# Altium footprint library BGA_Sq_50P.PcbLib: 21 footprints (part 1 of 2)
Each footprint in its own frame and in the unit in brackets; x right, y up, seen from the top. Pads: shape width x height; smd on the part's side, far side on the other; paste and mask are expansions set on the pad; w line width, h text height; cw(c..) or ccw(c..) is an arc to the next point about the centre after c.
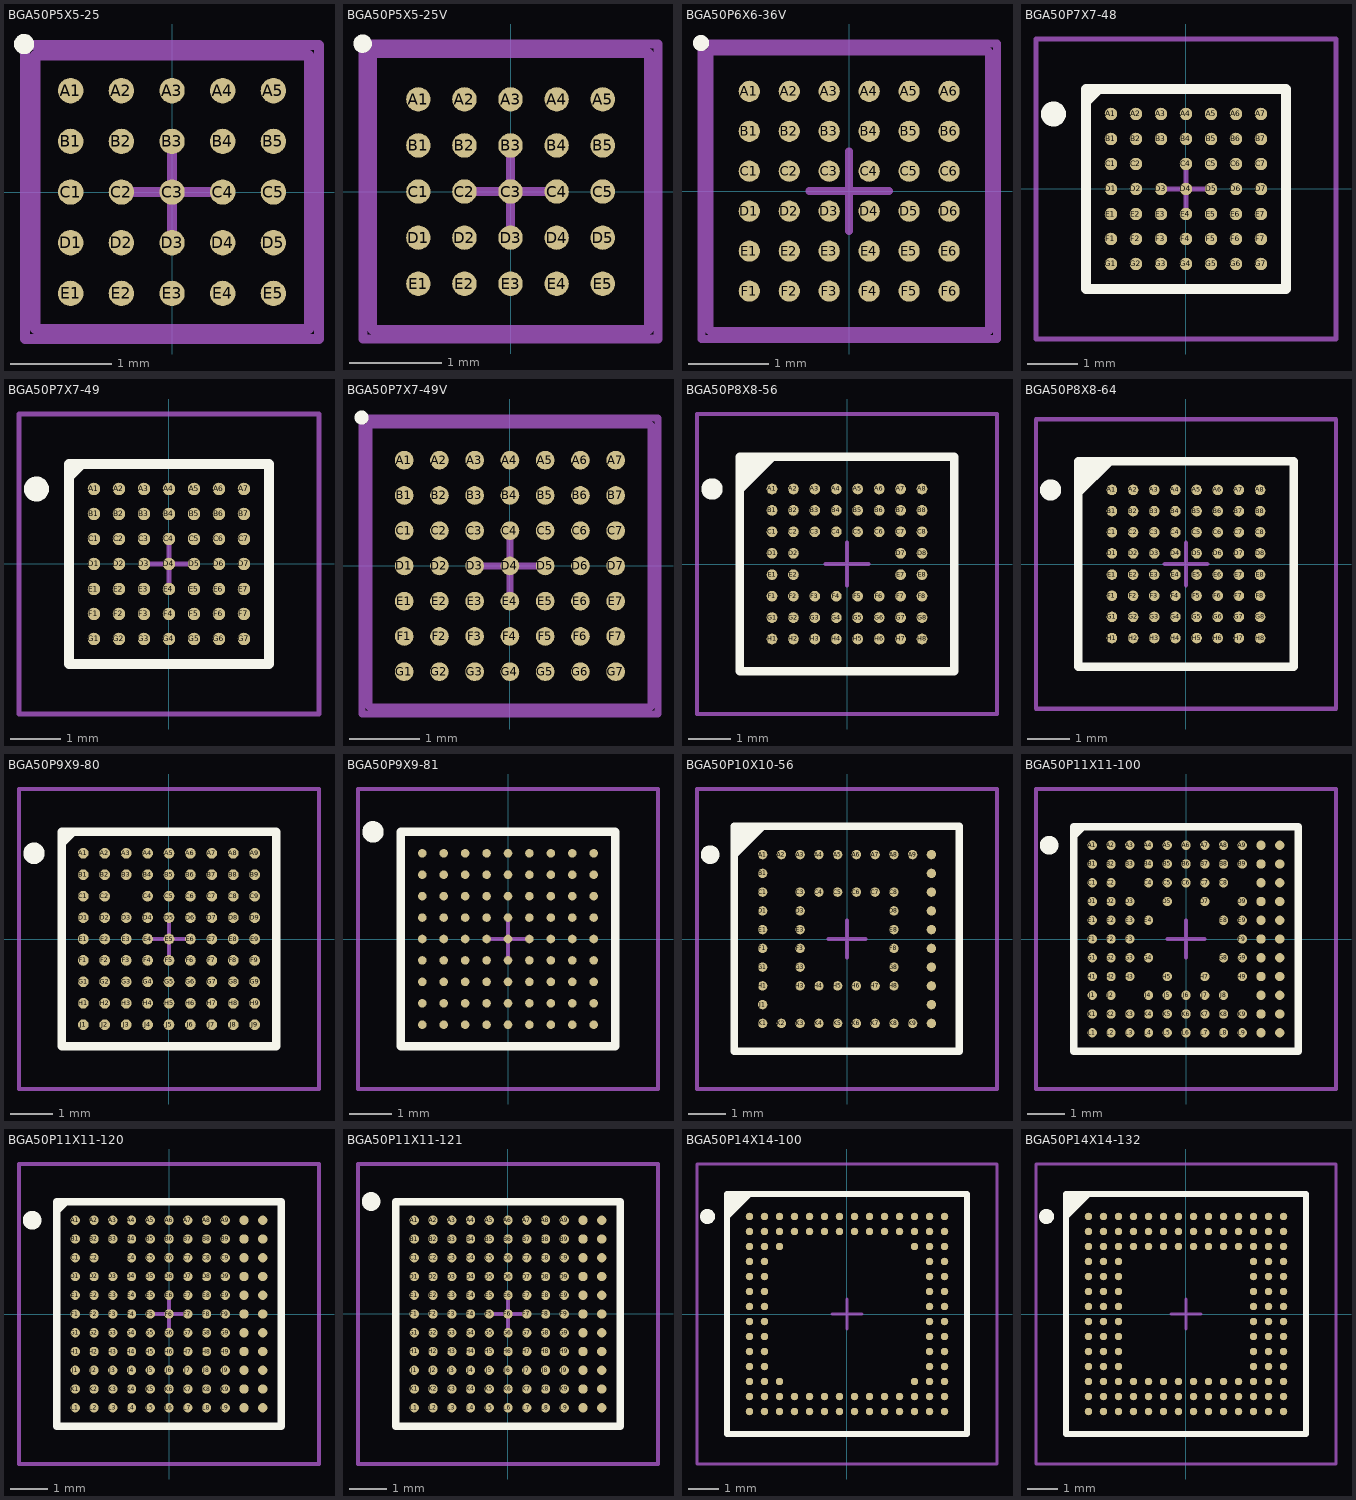
[diagram p0: the footprints below, top view; thin cyan lines are the x and y axes]

## BGA50P5X5-25 [mm] "BGA, 25-Leads, Body 2.69x2.69mm, Pitch 0.5mm"
height 0.6
pads (25):
  round 0.25 smd: A1(-1,1) A2(-0.5,1) A3(0,1) A4(0.5,1) A5(1,1) B1(-1,0.5) B2(-0.5,0.5) B3(0,0.5) B4(0.5,0.5) B5(1,0.5) C1(-1,0) C2(-0.5,0) C3(0,0) C4(0.5,0) C5(1,0) D1(-1,-0.5) D2(-0.5,-0.5) D3(0,-0.5) D4(0.5,-0.5) D5(1,-0.5) E1(-1,-1) E2(-0.5,-1) E3(0,-1) E4(0.5,-1) E5(1,-1)
Top Overlay:
  circle w0.1: c-1.46,1.46 r0.05
Mechanical 13:
  lines w0.1: -1.35,-1.35 1.35,-1.35 1.35,1.35 -1.35,1.35 -1.35,-1.35
Mechanical 15:
  lines w0.1: -0.5,0 0.5,0 ; 0,-0.5 0,0.5 ; -1.45,-1.45 1.45,-1.45 1.45,1.45 -1.45,1.45 -1.45,-1.45
3D body: height 0.6, standoff 0.22, extent -1.35,-1.35 1.35,1.35

## BGA50P5X5-25V [mm] "BGA, 25-Leads, Body 3x3mm, Pitch 0.5mm, NSC Recommended"
height 1.1
pads (25):
  round 0.265 smd paste-0.132 mask+0.05: A1(-1,1) A2(-0.5,1) A3(0,1) A4(0.5,1) A5(1,1) B1(-1,0.5) B2(-0.5,0.5) B3(0,0.5) B4(0.5,0.5) B5(1,0.5) C1(-1,0) C2(-0.5,0) C3(0,0) C4(0.5,0) C5(1,0) D1(-1,-0.5) D2(-0.5,-0.5) D3(0,-0.5) D4(0.5,-0.5) D5(1,-0.5) E1(-1,-1) E2(-0.5,-1) E3(0,-1) E4(0.5,-1) E5(1,-1)
Top Overlay:
  circle w0.1: c-1.605,1.605 r0.05
Top Paste:
  drawing of 225 lines, arcs and shapes, not listed
Mechanical 13:
  lines w0.1: -1.5,-1.5 -1.5,1.5 1.5,1.5 1.5,-1.5 -1.5,-1.5
Mechanical 15:
  lines w0.1: -0.5,0 0.5,0 ; 0,-0.5 0,0.5 ; -1.6,-1.6 -1.6,1.6 1.6,1.6 1.6,-1.6 -1.6,-1.6
3D body: height 1.1, standoff 0, extent -1.5,-1.5 1.5,1.5

## BGA50P6X6-36V [mm] "BGA, 36-Leads, Body 3.5x3.5mm, Pitch 0.5mm, NSC Recommended"
height 1.1
pads (36):
  round 0.265 smd paste-0.132 mask+0.05: A1(-1.25,1.25) A2(-0.75,1.25) A3(-0.25,1.25) A4(0.25,1.25) A5(0.75,1.25) A6(1.25,1.25) B1(-1.25,0.75) B2(-0.75,0.75) B3(-0.25,0.75) B4(0.25,0.75) B5(0.75,0.75) B6(1.25,0.75) C1(-1.25,0.25) C2(-0.75,0.25) C3(-0.25,0.25) C4(0.25,0.25) C5(0.75,0.25) C6(1.25,0.25) D1(-1.25,-0.25) D2(-0.75,-0.25) D3(-0.25,-0.25) D4(0.25,-0.25) D5(0.75,-0.25) D6(1.25,-0.25) E1(-1.25,-0.75) E2(-0.75,-0.75) E3(-0.25,-0.75) E4(0.25,-0.75) E5(0.75,-0.75) E6(1.25,-0.75) F1(-1.25,-1.25) F2(-0.75,-1.25) F3(-0.25,-1.25) F4(0.25,-1.25) F5(0.75,-1.25) F6(1.25,-1.25)
Top Overlay:
  circle w0.1: c-1.855,1.855 r0.05
Top Paste:
  drawing of 324 lines, arcs and shapes, not listed
Mechanical 13:
  lines w0.1: -1.75,-1.75 -1.75,1.75 1.75,1.75 1.75,-1.75 -1.75,-1.75
Mechanical 15:
  lines w0.1: -0.5,0 0.5,0 ; 0,-0.5 0,0.5 ; -1.85,-1.85 -1.85,1.85 1.85,1.85 1.85,-1.85 -1.85,-1.85
3D body: height 1.1, standoff 0, extent -1.75,-1.75 1.75,1.75

## BGA50P7X7-48 [mm] "BGA, 48-Leads, Body 4x4mm, Pitch 0.5mm"
height 1
pads (48):
  round 0.25 smd: A1(-1.5,1.5) A2(-1,1.5) A3(-0.5,1.5) A4(0,1.5) A5(0.5,1.5) A6(1,1.5) A7(1.5,1.5) B1(-1.5,1) B2(-1,1) B3(-0.5,1) B4(0,1) B5(0.5,1) B6(1,1) B7(1.5,1) C1(-1.5,0.5) C2(-1,0.5) C4(0,0.5) C5(0.5,0.5) C6(1,0.5) C7(1.5,0.5) D1(-1.5,0) D2(-1,0) D3(-0.5,0) D4(0,0) D5(0.5,0) D6(1,0) D7(1.5,0) E1(-1.5,-0.5) E2(-1,-0.5) E3(-0.5,-0.5) E4(0,-0.5) E5(0.5,-0.5) E6(1,-0.5) E7(1.5,-0.5) F1(-1.5,-1) F2(-1,-1) F3(-0.5,-1) F4(0,-1) F5(0.5,-1) F6(1,-1) F7(1.5,-1) G1(-1.5,-1.5) G2(-1,-1.5) G3(-0.5,-1.5) G4(0,-1.5) G5(0.5,-1.5) G6(1,-1.5) G7(1.5,-1.5)
Top Overlay:
  circle w0.25: c-2.65,1.5 r0.125
  region: -1.742,2 -2,1.742 -2,2
  lines w0.2: -2,1.742 -1.742,2 ; -2,-2 2,-2 2,2 -2,2 -2,-2
Mechanical 13:
  lines w0.1: -2,-2 2,-2 2,2 -2,2 -2,-2
Mechanical 15:
  lines w0.1: -0.5,0 0.5,0 ; 0,-0.5 0,0.5 ; -3,-3 3,-3 3,3 -3,3 -3,-3
3D body: height 1, standoff 0, extent -2,-2 2,2

## BGA50P7X7-49 [mm] "BGA, 49-Leads, Body 4x4mm, Pitch 0.5mm"
height 1.1
pads (49):
  round 0.25 smd: A1(-1.5,1.5) A2(-1,1.5) A3(-0.5,1.5) A4(0,1.5) A5(0.5,1.5) A6(1,1.5) A7(1.5,1.5) B1(-1.5,1) B2(-1,1) B3(-0.5,1) B4(0,1) B5(0.5,1) B6(1,1) B7(1.5,1) C1(-1.5,0.5) C2(-1,0.5) C3(-0.5,0.5) C4(0,0.5) C5(0.5,0.5) C6(1,0.5) C7(1.5,0.5) D1(-1.5,0) D2(-1,0) D3(-0.5,0) D4(0,0) D5(0.5,0) D6(1,0) D7(1.5,0) E1(-1.5,-0.5) E2(-1,-0.5) E3(-0.5,-0.5) E4(0,-0.5) E5(0.5,-0.5) E6(1,-0.5) E7(1.5,-0.5) F1(-1.5,-1) F2(-1,-1) F3(-0.5,-1) F4(0,-1) F5(0.5,-1) F6(1,-1) F7(1.5,-1) G1(-1.5,-1.5) G2(-1,-1.5) G3(-0.5,-1.5) G4(0,-1.5) G5(0.5,-1.5) G6(1,-1.5) G7(1.5,-1.5)
Top Overlay:
  circle w0.25: c-2.65,1.5 r0.125
  region: -1.742,2 -2,1.742 -2,2
  lines w0.2: -2,1.742 -1.742,2 ; -2,-2 2,-2 2,2 -2,2 -2,-2
Mechanical 13:
  lines w0.1: -2,-2 2,-2 2,2 -2,2 -2,-2
Mechanical 15:
  lines w0.1: -0.5,0 0.5,0 ; 0,-0.5 0,0.5 ; -3,-3 3,-3 3,3 -3,3 -3,-3
3D body: height 1.1, standoff 0.18, extent -1.999,-1.999 1.999,1.999

## BGA50P7X7-49V [mm] "BGA, 49-Leads, Body 4x4mm, Pitch 0.5mm, NSC Recommended"
height 1.1
pads (49):
  round 0.265 smd paste-0.132 mask+0.05: A1(-1.5,1.5) A2(-1,1.5) A3(-0.5,1.5) A4(0,1.5) A5(0.5,1.5) A6(1,1.5) A7(1.5,1.5) B1(-1.5,1) B2(-1,1) B3(-0.5,1) B4(0,1) B5(0.5,1) B6(1,1) B7(1.5,1) C1(-1.5,0.5) C2(-1,0.5) C3(-0.5,0.5) C4(0,0.5) C5(0.5,0.5) C6(1,0.5) C7(1.5,0.5) D1(-1.5,0) D2(-1,0) D3(-0.5,0) D4(0,0) D5(0.5,0) D6(1,0) D7(1.5,0) E1(-1.5,-0.5) E2(-1,-0.5) E3(-0.5,-0.5) E4(0,-0.5) E5(0.5,-0.5) E6(1,-0.5) E7(1.5,-0.5) F1(-1.5,-1) F2(-1,-1) F3(-0.5,-1) F4(0,-1) F5(0.5,-1) F6(1,-1) F7(1.5,-1) G1(-1.5,-1.5) G2(-1,-1.5) G3(-0.5,-1.5) G4(0,-1.5) G5(0.5,-1.5) G6(1,-1.5) G7(1.5,-1.5)
Top Overlay:
  circle w0.1: c-2.105,2.105 r0.05
Top Paste:
  drawing of 441 lines, arcs and shapes, not listed
Mechanical 13:
  lines w0.1: -2,-2 -2,2 2,2 2,-2 -2,-2
Mechanical 15:
  lines w0.1: -0.5,0 0.5,0 ; 0,-0.5 0,0.5 ; -2.1,-2.1 -2.1,2.1 2.1,2.1 2.1,-2.1 -2.1,-2.1
3D body: height 1.1, standoff 0, extent -2,-2 2,2

## BGA50P8X8-56 [mm] "BGA, 56-Leads, Body 5x5mm, Pitch 0.5mm"
height 1
pads (56):
  round 0.25 smd: A1(-1.75,1.75) A2(-1.25,1.75) A3(-0.75,1.75) A4(-0.25,1.75) A5(0.25,1.75) A6(0.75,1.75) A7(1.25,1.75) A8(1.75,1.75) B1(-1.75,1.25) B2(-1.25,1.25) B3(-0.75,1.25) B4(-0.25,1.25) B5(0.25,1.25) B6(0.75,1.25) B7(1.25,1.25) B8(1.75,1.25) C1(-1.75,0.75) C2(-1.25,0.75) C3(-0.75,0.75) C4(-0.25,0.75) C5(0.25,0.75) C6(0.75,0.75) C7(1.25,0.75) C8(1.75,0.75) D1(-1.75,0.25) D2(-1.25,0.25) D7(1.25,0.25) D8(1.75,0.25) E1(-1.75,-0.25) E2(-1.25,-0.25) E7(1.25,-0.25) E8(1.75,-0.25) F1(-1.75,-0.75) F2(-1.25,-0.75) F3(-0.75,-0.75) F4(-0.25,-0.75) F5(0.25,-0.75) F6(0.75,-0.75) F7(1.25,-0.75) F8(1.75,-0.75) G1(-1.75,-1.25) G2(-1.25,-1.25) G3(-0.75,-1.25) G4(-0.25,-1.25) G5(0.25,-1.25) G6(0.75,-1.25) G7(1.25,-1.25) G8(1.75,-1.25) H1(-1.75,-1.75) H2(-1.25,-1.75) H3(-0.75,-1.75) H4(-0.25,-1.75) H5(0.25,-1.75) H6(0.75,-1.75) H7(1.25,-1.75) H8(1.75,-1.75)
Top Overlay:
  circle w0.25: c-3.15,1.75 r0.125
  region: -1.742,2.5 -2.5,1.742 -2.5,2.5
  lines w0.2: -2.5,1.742 -1.742,2.5 ; -2.5,-2.5 2.5,-2.5 2.5,2.5 -2.5,2.5 -2.5,-2.5
Mechanical 13:
  lines w0.1: -2.5,-2.5 2.5,-2.5 2.5,2.5 -2.5,2.5 -2.5,-2.5
Mechanical 15:
  lines w0.1: -0.5,0 0.5,0 ; 0,-0.5 0,0.5 ; -3.5,-3.5 3.5,-3.5 3.5,3.5 -3.5,3.5 -3.5,-3.5
3D body: height 1, standoff 0, extent -2.5,-2.5 2.5,2.5

## BGA50P8X8-64 [mm] "BGA, 64-Leads, Body 4.8x5.1mm, Pitch 0.5mm"
height 0.9
pads (64):
  round 0.25 smd: A1(-1.75,1.75) A2(-1.25,1.75) A3(-0.75,1.75) A4(-0.25,1.75) A5(0.25,1.75) A6(0.75,1.75) A7(1.25,1.75) A8(1.75,1.75) B1(-1.75,1.25) B2(-1.25,1.25) B3(-0.75,1.25) B4(-0.25,1.25) B5(0.25,1.25) B6(0.75,1.25) B7(1.25,1.25) B8(1.75,1.25) C1(-1.75,0.75) C2(-1.25,0.75) C3(-0.75,0.75) C4(-0.25,0.75) C5(0.25,0.75) C6(0.75,0.75) C7(1.25,0.75) C8(1.75,0.75) D1(-1.75,0.25) D2(-1.25,0.25) D3(-0.75,0.25) D4(-0.25,0.25) D5(0.25,0.25) D6(0.75,0.25) D7(1.25,0.25) D8(1.75,0.25) E1(-1.75,-0.25) E2(-1.25,-0.25) E3(-0.75,-0.25) E4(-0.25,-0.25) E5(0.25,-0.25) E6(0.75,-0.25) E7(1.25,-0.25) E8(1.75,-0.25) F1(-1.75,-0.75) F2(-1.25,-0.75) F3(-0.75,-0.75) F4(-0.25,-0.75) F5(0.25,-0.75) F6(0.75,-0.75) F7(1.25,-0.75) F8(1.75,-0.75) G1(-1.75,-1.25) G2(-1.25,-1.25) G3(-0.75,-1.25) G4(-0.25,-1.25) G5(0.25,-1.25) G6(0.75,-1.25) G7(1.25,-1.25) G8(1.75,-1.25) H1(-1.75,-1.75) H2(-1.25,-1.75) H3(-0.75,-1.75) H4(-0.25,-1.75) H5(0.25,-1.75) H6(0.75,-1.75) H7(1.25,-1.75) H8(1.75,-1.75)
Top Overlay:
  circle w0.25: c-3.2,1.75 r0.125
  region: -1.801,2.425 -2.55,1.676 -2.55,2.425
  lines w0.2: -2.55,1.676 -1.801,2.425 ; -2.55,-2.425 -2.55,2.425 2.55,2.425 2.55,-2.425 -2.55,-2.425
Mechanical 13:
  lines w0.1: -2.55,-2.425 -2.55,2.425 2.55,2.425 2.55,-2.425 -2.55,-2.425
Mechanical 15:
  lines w0.1: -0.5,0 0.5,0 ; 0,-0.5 0,0.5 ; -3.545,-3.42 -3.545,3.42 3.545,3.42 3.545,-3.42 -3.545,-3.42
3D body: height 0.9, standoff 0.25, extent -2.55,-2.425 2.55,2.425

## BGA50P9X9-80 [mm] "BGA, 80-Leads, Body 5x5mm, Pitch 0.5mm"
height 1
pads (80):
  round 0.25 smd: A1(-2,2) A2(-1.5,2) A3(-1,2) A4(-0.5,2) A5(0,2) A6(0.5,2) A7(1,2) A8(1.5,2) A9(2,2) B1(-2,1.5) B2(-1.5,1.5) B3(-1,1.5) B4(-0.5,1.5) B5(0,1.5) B6(0.5,1.5) B7(1,1.5) B8(1.5,1.5) B9(2,1.5) C1(-2,1) C2(-1.5,1) C4(-0.5,1) C5(0,1) C6(0.5,1) C7(1,1) C8(1.5,1) C9(2,1) D1(-2,0.5) D2(-1.5,0.5) D3(-1,0.5) D4(-0.5,0.5) D5(0,0.5) D6(0.5,0.5) D7(1,0.5) D8(1.5,0.5) D9(2,0.5) E1(-2,0) E2(-1.5,0) E3(-1,0) E4(-0.5,0) E5(0,0) E6(0.5,0) E7(1,0) E8(1.5,0) E9(2,0) F1(-2,-0.5) F2(-1.5,-0.5) F3(-1,-0.5) F4(-0.5,-0.5) F5(0,-0.5) F6(0.5,-0.5) F7(1,-0.5) F8(1.5,-0.5) F9(2,-0.5) G1(-2,-1) G2(-1.5,-1) G3(-1,-1) G4(-0.5,-1) G5(0,-1) G6(0.5,-1) G7(1,-1) G8(1.5,-1) G9(2,-1) H1(-2,-1.5) H2(-1.5,-1.5) H3(-1,-1.5) H4(-0.5,-1.5) H5(0,-1.5) H6(0.5,-1.5) H7(1,-1.5) H8(1.5,-1.5) H9(2,-1.5) J1(-2,-2) J2(-1.5,-2) J3(-1,-2) J4(-0.5,-2) J5(0,-2) J6(0.5,-2) J7(1,-2) J8(1.5,-2) J9(2,-2)
Top Overlay:
  circle w0.25: c-3.15,2 r0.125
  region: -2.242,2.5 -2.5,2.242 -2.5,2.5
  lines w0.2: -2.5,2.242 -2.242,2.5 ; -2.5,-2.5 -2.5,2.5 2.5,2.5 2.5,-2.5 -2.5,-2.5
Mechanical 13:
  lines w0.1: -2.5,-2.5 -2.5,2.5 2.5,2.5 2.5,-2.5 -2.5,-2.5
Mechanical 15:
  lines w0.1: -0.5,0 0.5,0 ; 0,-0.5 0,0.5 ; -3.5,-3.5 -3.5,3.5 3.5,3.5 3.5,-3.5 -3.5,-3.5
3D body: height 1, standoff 0, extent -2.5,-2.5 2.5,2.5

## BGA50P9X9-81 [mm] "BGA, 81-Leads, Body 5x5mm, Pitch 0.5mm"
height 0.8
pads (81):
  round 0.2 smd: A1(-2,2) A2(-1.5,2) A3(-1,2) A4(-0.5,2) A5(0,2) A6(0.5,2) A7(1,2) A8(1.5,2) A9(2,2) B1(-2,1.5) B2(-1.5,1.5) B3(-1,1.5) B4(-0.5,1.5) B5(0,1.5) B6(0.5,1.5) B7(1,1.5) B8(1.5,1.5) B9(2,1.5) C1(-2,1) C2(-1.5,1) C3(-1,1) C4(-0.5,1) C5(0,1) C6(0.5,1) C7(1,1) C8(1.5,1) C9(2,1) D1(-2,0.5) D2(-1.5,0.5) D3(-1,0.5) D4(-0.5,0.5) D5(0,0.5) D6(0.5,0.5) D7(1,0.5) D8(1.5,0.5) D9(2,0.5) E1(-2,0) E2(-1.5,0) E3(-1,0) E4(-0.5,0) E5(0,0) E6(0.5,0) E7(1,0) E8(1.5,0) E9(2,0) F1(-2,-0.5) F2(-1.5,-0.5) F3(-1,-0.5) F4(-0.5,-0.5) F5(0,-0.5) F6(0.5,-0.5) F7(1,-0.5) F8(1.5,-0.5) F9(2,-0.5) G1(-2,-1) G2(-1.5,-1) G3(-1,-1) G4(-0.5,-1) G5(0,-1) G6(0.5,-1) G7(1,-1) G8(1.5,-1) G9(2,-1) H1(-2,-1.5) H2(-1.5,-1.5) H3(-1,-1.5) H4(-0.5,-1.5) H5(0,-1.5) H6(0.5,-1.5) H7(1,-1.5) H8(1.5,-1.5) H9(2,-1.5) J1(-2,-2) J2(-1.5,-2) J3(-1,-2) J4(-0.5,-2) J5(0,-2) J6(0.5,-2) J7(1,-2) J8(1.5,-2) J9(2,-2)
Top Overlay:
  circle w0.25: c-3.15,2.5 r0.125
  lines w0.2: -2.5,-2.5 2.5,-2.5 2.5,2.5 -2.5,2.5 -2.5,-2.5
Mechanical 13:
  lines w0.1: -2.5,-2.5 2.5,-2.5 2.5,2.5 -2.5,2.5 -2.5,-2.5
Mechanical 15:
  lines w0.1: -0.5,0 0.5,0 ; 0,-0.5 0,0.5 ; -3.5,-3.5 3.5,-3.5 3.5,3.5 -3.5,3.5 -3.5,-3.5
3D body: height 0.8, standoff 0.05, extent -2.5,-2.5 2.5,2.5

## BGA50P10X10-56 [mm] "BGA, 56-Leads, Body 6x6mm, Pitch 0.5mm"
height 1.35
pads (56):
  round 0.25 smd: A1(-2.25,2.25) A2(-1.75,2.25) A3(-1.25,2.25) A4(-0.75,2.25) A5(-0.25,2.25) A6(0.25,2.25) A7(0.75,2.25) A8(1.25,2.25) A9(1.75,2.25) A10(2.25,2.25) B1(-2.25,1.75) B10(2.25,1.75) C1(-2.25,1.25) C3(-1.25,1.25) C4(-0.75,1.25) C5(-0.25,1.25) C6(0.25,1.25) C7(0.75,1.25) C8(1.25,1.25) C10(2.25,1.25) D1(-2.25,0.75) D3(-1.25,0.75) D8(1.25,0.75) D10(2.25,0.75) E1(-2.25,0.25) E3(-1.25,0.25) E8(1.25,0.25) E10(2.25,0.25) F1(-2.25,-0.25) F3(-1.25,-0.25) F8(1.25,-0.25) F10(2.25,-0.25) G1(-2.25,-0.75) G3(-1.25,-0.75) G8(1.25,-0.75) G10(2.25,-0.75) H1(-2.25,-1.25) H3(-1.25,-1.25) H4(-0.75,-1.25) H5(-0.25,-1.25) H6(0.25,-1.25) H7(0.75,-1.25) H8(1.25,-1.25) H10(2.25,-1.25) J1(-2.25,-1.75) J10(2.25,-1.75) K1(-2.25,-2.25) K2(-1.75,-2.25) K3(-1.25,-2.25) K4(-0.75,-2.25) K5(-0.25,-2.25) K6(0.25,-2.25) K7(0.75,-2.25) K8(1.25,-2.25) K9(1.75,-2.25) K10(2.25,-2.25)
Top Overlay:
  circle w0.25: c-3.65,2.25 r0.125
  region: -2.242,3 -3,2.242 -3,3
  lines w0.2: -3,2.242 -2.242,3 ; -3,-3 3,-3 3,3 -3,3 -3,-3
Mechanical 13:
  lines w0.1: -3,-3 3,-3 3,3 -3,3 -3,-3
Mechanical 15:
  lines w0.1: -0.5,0 0.5,0 ; 0,-0.5 0,0.5 ; -4,-4 4,-4 4,4 -4,4 -4,-4
3D body: height 1.35, standoff 0, extent -3,-3 3,3

## BGA50P11X11-100 [mm] "BGA, 100-Leads, Body 6x6mm, Pitch 0.5mm"
height 1.2
pads (100):
  round 0.25 smd: A1(-2.5,2.5) A2(-2,2.5) A3(-1.5,2.5) A4(-1,2.5) A5(-0.5,2.5) A6(0,2.5) A7(0.5,2.5) A8(1,2.5) A9(1.5,2.5) A10(2,2.5) A11(2.5,2.5) B1(-2.5,2) B2(-2,2) B3(-1.5,2) B4(-1,2) B5(-0.5,2) B6(0,2) B7(0.5,2) B8(1,2) B9(1.5,2) B10(2,2) B11(2.5,2) C1(-2.5,1.5) C2(-2,1.5) C4(-1,1.5) C5(-0.5,1.5) C6(0,1.5) C7(0.5,1.5) C8(1,1.5) C10(2,1.5) C11(2.5,1.5) D1(-2.5,1) D2(-2,1) D3(-1.5,1) D5(-0.5,1) D7(0.5,1) D9(1.5,1) D10(2,1) D11(2.5,1) E1(-2.5,0.5) E2(-2,0.5) E3(-1.5,0.5) E4(-1,0.5) E8(1,0.5) E9(1.5,0.5) E10(2,0.5) E11(2.5,0.5) F1(-2.5,0) F2(-2,0) F3(-1.5,0) F9(1.5,0) F10(2,0) F11(2.5,0) G1(-2.5,-0.5) G2(-2,-0.5) G3(-1.5,-0.5) G4(-1,-0.5) G8(1,-0.5) G9(1.5,-0.5) G10(2,-0.5) G11(2.5,-0.5) H1(-2.5,-1) H2(-2,-1) H3(-1.5,-1) H5(-0.5,-1) H7(0.5,-1) H9(1.5,-1) H10(2,-1) H11(2.5,-1) J1(-2.5,-1.5) J2(-2,-1.5) J4(-1,-1.5) J5(-0.5,-1.5) J6(0,-1.5) J7(0.5,-1.5) J8(1,-1.5) J10(2,-1.5) J11(2.5,-1.5) K1(-2.5,-2) K2(-2,-2) K3(-1.5,-2) K4(-1,-2) K5(-0.5,-2) K6(0,-2) K7(0.5,-2) K8(1,-2) K9(1.5,-2) K10(2,-2) K11(2.5,-2) L1(-2.5,-2.5) L2(-2,-2.5) L3(-1.5,-2.5) L4(-1,-2.5) L5(-0.5,-2.5) L6(0,-2.5) L7(0.5,-2.5) L8(1,-2.5) L9(1.5,-2.5) L10(2,-2.5) L11(2.5,-2.5)
Top Overlay:
  circle w0.25: c-3.65,2.5 r0.125
  region: -2.742,3 -3,2.742 -3,3
  lines w0.2: -3,2.742 -2.742,3 ; -3,-3 3,-3 3,3 -3,3 -3,-3
Mechanical 13:
  lines w0.1: -3,-3 3,-3 3,3 -3,3 -3,-3
Mechanical 15:
  lines w0.1: -0.5,0 0.5,0 ; 0,-0.5 0,0.5 ; -4,-4 4,-4 4,4 -4,4 -4,-4
3D body: height 1, standoff 0, extent -3,-3 3,3

## BGA50P11X11-120 [mm] "BGA, 120-Leads, Body 6x6mm, Pitch 0.5mm"
height 1
pads (120):
  round 0.25 smd: A1(-2.5,2.5) A2(-2,2.5) A3(-1.5,2.5) A4(-1,2.5) A5(-0.5,2.5) A6(0,2.5) A7(0.5,2.5) A8(1,2.5) A9(1.5,2.5) A10(2,2.5) A11(2.5,2.5) B1(-2.5,2) B2(-2,2) B3(-1.5,2) B4(-1,2) B5(-0.5,2) B6(0,2) B7(0.5,2) B8(1,2) B9(1.5,2) B10(2,2) B11(2.5,2) C1(-2.5,1.5) C2(-2,1.5) C4(-1,1.5) C5(-0.5,1.5) C6(0,1.5) C7(0.5,1.5) C8(1,1.5) C9(1.5,1.5) C10(2,1.5) C11(2.5,1.5) D1(-2.5,1) D2(-2,1) D3(-1.5,1) D4(-1,1) D5(-0.5,1) D6(0,1) D7(0.5,1) D8(1,1) D9(1.5,1) D10(2,1) D11(2.5,1) E1(-2.5,0.5) E2(-2,0.5) E3(-1.5,0.5) E4(-1,0.5) E5(-0.5,0.5) E6(0,0.5) E7(0.5,0.5) E8(1,0.5) E9(1.5,0.5) E10(2,0.5) E11(2.5,0.5) F1(-2.5,0) F2(-2,0) F3(-1.5,0) F4(-1,0) F5(-0.5,0) F6(0,0) F7(0.5,0) F8(1,0) F9(1.5,0) F10(2,0) F11(2.5,0) G1(-2.5,-0.5) G2(-2,-0.5) G3(-1.5,-0.5) G4(-1,-0.5) G5(-0.5,-0.5) G6(0,-0.5) G7(0.5,-0.5) G8(1,-0.5) G9(1.5,-0.5) G10(2,-0.5) G11(2.5,-0.5) H1(-2.5,-1) H2(-2,-1) H3(-1.5,-1) H4(-1,-1) H5(-0.5,-1) H6(0,-1) H7(0.5,-1) H8(1,-1) H9(1.5,-1) H10(2,-1) H11(2.5,-1) J1(-2.5,-1.5) J2(-2,-1.5) J3(-1.5,-1.5) J4(-1,-1.5) J5(-0.5,-1.5) J6(0,-1.5) J7(0.5,-1.5) J8(1,-1.5) J9(1.5,-1.5) J10(2,-1.5) J11(2.5,-1.5) K1(-2.5,-2) K2(-2,-2) K3(-1.5,-2) K4(-1,-2) K5(-0.5,-2) K6(0,-2) K7(0.5,-2) K8(1,-2) K9(1.5,-2) K10(2,-2) K11(2.5,-2) L1(-2.5,-2.5) L2(-2,-2.5) L3(-1.5,-2.5) L4(-1,-2.5) L5(-0.5,-2.5) L6(0,-2.5) L7(0.5,-2.5) L8(1,-2.5) L9(1.5,-2.5) L10(2,-2.5) L11(2.5,-2.5)
Top Overlay:
  circle w0.25: c-3.65,2.5 r0.125
  region: -2.742,3 -3,2.742 -3,3
  lines w0.2: -3,2.742 -2.742,3 ; -3,-3 -3,3 3,3 3,-3 -3,-3
Mechanical 13:
  lines w0.1: -3,-3 -3,3 3,3 3,-3 -3,-3
Mechanical 15:
  lines w0.1: -0.5,0 0.5,0 ; 0,-0.5 0,0.5 ; -4,-4 -4,4 4,4 4,-4 -4,-4
3D body: height 1, standoff 0, extent -3,-3 3,3

## BGA50P11X11-121 [mm] "BGA, 121-Leads, Body 6x6mm, Pitch 0.5mm"
height 0.99
pads (121):
  round 0.25 smd: A1(-2.5,2.5) A2(-2,2.5) A3(-1.5,2.5) A4(-1,2.5) A5(-0.5,2.5) A6(0,2.5) A7(0.5,2.5) A8(1,2.5) A9(1.5,2.5) A10(2,2.5) A11(2.5,2.5) B1(-2.5,2) B2(-2,2) B3(-1.5,2) B4(-1,2) B5(-0.5,2) B6(0,2) B7(0.5,2) B8(1,2) B9(1.5,2) B10(2,2) B11(2.5,2) C1(-2.5,1.5) C2(-2,1.5) C3(-1.5,1.5) C4(-1,1.5) C5(-0.5,1.5) C6(0,1.5) C7(0.5,1.5) C8(1,1.5) C9(1.5,1.5) C10(2,1.5) C11(2.5,1.5) D1(-2.5,1) D2(-2,1) D3(-1.5,1) D4(-1,1) D5(-0.5,1) D6(0,1) D7(0.5,1) D8(1,1) D9(1.5,1) D10(2,1) D11(2.5,1) E1(-2.5,0.5) E2(-2,0.5) E3(-1.5,0.5) E4(-1,0.5) E5(-0.5,0.5) E6(0,0.5) E7(0.5,0.5) E8(1,0.5) E9(1.5,0.5) E10(2,0.5) E11(2.5,0.5) F1(-2.5,0) F2(-2,0) F3(-1.5,0) F4(-1,0) F5(-0.5,0) F6(0,0) F7(0.5,0) F8(1,0) F9(1.5,0) F10(2,0) F11(2.5,0) G1(-2.5,-0.5) G2(-2,-0.5) G3(-1.5,-0.5) G4(-1,-0.5) G5(-0.5,-0.5) G6(0,-0.5) G7(0.5,-0.5) G8(1,-0.5) G9(1.5,-0.5) G10(2,-0.5) G11(2.5,-0.5) H1(-2.5,-1) H2(-2,-1) H3(-1.5,-1) H4(-1,-1) H5(-0.5,-1) H6(0,-1) H7(0.5,-1) H8(1,-1) H9(1.5,-1) H10(2,-1) H11(2.5,-1) J1(-2.5,-1.5) J2(-2,-1.5) J3(-1.5,-1.5) J4(-1,-1.5) J5(-0.5,-1.5) J6(0,-1.5) J7(0.5,-1.5) J8(1,-1.5) J9(1.5,-1.5) J10(2,-1.5) J11(2.5,-1.5) K1(-2.5,-2) K2(-2,-2) K3(-1.5,-2) K4(-1,-2) K5(-0.5,-2) K6(0,-2) K7(0.5,-2) K8(1,-2) K9(1.5,-2) K10(2,-2) K11(2.5,-2) L1(-2.5,-2.5) L2(-2,-2.5) L3(-1.5,-2.5) L4(-1,-2.5) L5(-0.5,-2.5) L6(0,-2.5) L7(0.5,-2.5) L8(1,-2.5) L9(1.5,-2.5) L10(2,-2.5) L11(2.5,-2.5)
Top Overlay:
  circle w0.25: c-3.65,3 r0.125
  lines w0.2: -3,-3 -3,3 3,3 3,-3 -3,-3
Mechanical 13:
  lines w0.1: -3,-3 -3,3 3,3 3,-3 -3,-3
Mechanical 15:
  lines w0.1: -0.5,0 0.5,0 ; 0,-0.5 0,0.5 ; -4,-4 -4,4 4,4 4,-4 -4,-4
3D body: height 0.99, standoff 0.18, extent -3,-3 3,3

## BGA50P14X14-100 [mm] "BGA, 100-Leads, Body 8x8mm, Pitch 0.5mm"
height 1.35
pads (100):
  round 0.25 smd: A1(-3.25,3.25) A2(-2.75,3.25) A3(-2.25,3.25) A4(-1.75,3.25) A5(-1.25,3.25) A6(-0.75,3.25) A7(-0.25,3.25) A8(0.25,3.25) A9(0.75,3.25) A10(1.25,3.25) A11(1.75,3.25) A12(2.25,3.25) A13(2.75,3.25) A14(3.25,3.25) B1(-3.25,2.75) B2(-2.75,2.75) B3(-2.25,2.75) B4(-1.75,2.75) B5(-1.25,2.75) B6(-0.75,2.75) B7(-0.25,2.75) B8(0.25,2.75) B9(0.75,2.75) B10(1.25,2.75) B11(1.75,2.75) B12(2.25,2.75) B13(2.75,2.75) B14(3.25,2.75) C1(-3.25,2.25) C2(-2.75,2.25) C3(-2.25,2.25) C12(2.25,2.25) C13(2.75,2.25) C14(3.25,2.25) D1(-3.25,1.75) D2(-2.75,1.75) D13(2.75,1.75) D14(3.25,1.75) E1(-3.25,1.25) E2(-2.75,1.25) E13(2.75,1.25) E14(3.25,1.25) F1(-3.25,0.75) F2(-2.75,0.75) F13(2.75,0.75) F14(3.25,0.75) G1(-3.25,0.25) G2(-2.75,0.25) G13(2.75,0.25) G14(3.25,0.25) H1(-3.25,-0.25) H2(-2.75,-0.25) H13(2.75,-0.25) H14(3.25,-0.25) J1(-3.25,-0.75) J2(-2.75,-0.75) J13(2.75,-0.75) J14(3.25,-0.75) K1(-3.25,-1.25) K2(-2.75,-1.25) K13(2.75,-1.25) K14(3.25,-1.25) L1(-3.25,-1.75) L2(-2.75,-1.75) L13(2.75,-1.75) L14(3.25,-1.75) M1(-3.25,-2.25) M2(-2.75,-2.25) M3(-2.25,-2.25) M12(2.25,-2.25) M13(2.75,-2.25) M14(3.25,-2.25) N1(-3.25,-2.75) N2(-2.75,-2.75) N3(-2.25,-2.75) N4(-1.75,-2.75) N5(-1.25,-2.75) N6(-0.75,-2.75) N7(-0.25,-2.75) N8(0.25,-2.75) N9(0.75,-2.75) N10(1.25,-2.75) N11(1.75,-2.75) N12(2.25,-2.75) N13(2.75,-2.75) N14(3.25,-2.75) P1(-3.25,-3.25) P2(-2.75,-3.25) P3(-2.25,-3.25) P4(-1.75,-3.25) P5(-1.25,-3.25) P6(-0.75,-3.25) P7(-0.25,-3.25) P8(0.25,-3.25) P9(0.75,-3.25) P10(1.25,-3.25) P11(1.75,-3.25) P12(2.25,-3.25) P13(2.75,-3.25) P14(3.25,-3.25)
Top Overlay:
  circle w0.25: c-4.65,3.25 r0.125
  region: -3.242,4 -4,3.242 -4,4
  lines w0.2: -4,3.242 -3.242,4 ; -4,-4 4,-4 4,4 -4,4 -4,-4
Mechanical 13:
  lines w0.1: -4,-4 4,-4 4,4 -4,4 -4,-4
Mechanical 15:
  lines w0.1: -0.5,0 0.5,0 ; 0,-0.5 0,0.5 ; -5,-5 5,-5 5,5 -5,5 -5,-5
3D body: height 1.35, standoff 0, extent -4,-4 4,4

## BGA50P14X14-132 [mm] "BGA, 132-Leads, Body 8x8mm, Pitch 0.5mm"
height 1.35
pads (132):
  round 0.25 smd: A1(-3.25,3.25) A2(-2.75,3.25) A3(-2.25,3.25) A4(-1.75,3.25) A5(-1.25,3.25) A6(-0.75,3.25) A7(-0.25,3.25) A8(0.25,3.25) A9(0.75,3.25) A10(1.25,3.25) A11(1.75,3.25) A12(2.25,3.25) A13(2.75,3.25) A14(3.25,3.25) B1(-3.25,2.75) B2(-2.75,2.75) B3(-2.25,2.75) B4(-1.75,2.75) B5(-1.25,2.75) B6(-0.75,2.75) B7(-0.25,2.75) B8(0.25,2.75) B9(0.75,2.75) B10(1.25,2.75) B11(1.75,2.75) B12(2.25,2.75) B13(2.75,2.75) B14(3.25,2.75) C1(-3.25,2.25) C2(-2.75,2.25) C3(-2.25,2.25) C4(-1.75,2.25) C5(-1.25,2.25) C6(-0.75,2.25) C7(-0.25,2.25) C8(0.25,2.25) C9(0.75,2.25) C10(1.25,2.25) C11(1.75,2.25) C12(2.25,2.25) C13(2.75,2.25) C14(3.25,2.25) D1(-3.25,1.75) D2(-2.75,1.75) D3(-2.25,1.75) D12(2.25,1.75) D13(2.75,1.75) D14(3.25,1.75) E1(-3.25,1.25) E2(-2.75,1.25) E3(-2.25,1.25) E12(2.25,1.25) E13(2.75,1.25) E14(3.25,1.25) F1(-3.25,0.75) F2(-2.75,0.75) F3(-2.25,0.75) F12(2.25,0.75) F13(2.75,0.75) F14(3.25,0.75) G1(-3.25,0.25) G2(-2.75,0.25) G3(-2.25,0.25) G12(2.25,0.25) G13(2.75,0.25) G14(3.25,0.25) H1(-3.25,-0.25) H2(-2.75,-0.25) H3(-2.25,-0.25) H12(2.25,-0.25) H13(2.75,-0.25) H14(3.25,-0.25) J1(-3.25,-0.75) J2(-2.75,-0.75) J3(-2.25,-0.75) J12(2.25,-0.75) J13(2.75,-0.75) J14(3.25,-0.75) K1(-3.25,-1.25) K2(-2.75,-1.25) K3(-2.25,-1.25) K12(2.25,-1.25) K13(2.75,-1.25) K14(3.25,-1.25) L1(-3.25,-1.75) L2(-2.75,-1.75) L3(-2.25,-1.75) L12(2.25,-1.75) L13(2.75,-1.75) L14(3.25,-1.75) M1(-3.25,-2.25) M2(-2.75,-2.25) M3(-2.25,-2.25) M4(-1.75,-2.25) M5(-1.25,-2.25) M6(-0.75,-2.25) M7(-0.25,-2.25) M8(0.25,-2.25) M9(0.75,-2.25) M10(1.25,-2.25) M11(1.75,-2.25) M12(2.25,-2.25) M13(2.75,-2.25) M14(3.25,-2.25) N1(-3.25,-2.75) N2(-2.75,-2.75) N3(-2.25,-2.75) N4(-1.75,-2.75) N5(-1.25,-2.75) N6(-0.75,-2.75) N7(-0.25,-2.75) N8(0.25,-2.75) N9(0.75,-2.75) N10(1.25,-2.75) N11(1.75,-2.75) N12(2.25,-2.75) N13(2.75,-2.75) N14(3.25,-2.75) P1(-3.25,-3.25) P2(-2.75,-3.25) P3(-2.25,-3.25) P4(-1.75,-3.25) P5(-1.25,-3.25) P6(-0.75,-3.25) P7(-0.25,-3.25) P8(0.25,-3.25) P9(0.75,-3.25) P10(1.25,-3.25) P11(1.75,-3.25) P12(2.25,-3.25) P13(2.75,-3.25) P14(3.25,-3.25)
Top Overlay:
  circle w0.25: c-4.65,3.25 r0.125
  region: -3.242,4 -4,3.242 -4,4
  lines w0.2: -4,3.242 -3.242,4 ; -4,-4 -4,4 4,4 4,-4 -4,-4
Mechanical 13:
  lines w0.1: -4,-4 -4,4 4,4 4,-4 -4,-4
Mechanical 15:
  lines w0.1: -0.5,0 0.5,0 ; 0,-0.5 0,0.5 ; -5,-5 -5,5 5,5 5,-5 -5,-5
3D body: height 1.35, standoff 0, extent -4,-4 4,4